# Altium footprint library 农联网.PcbLib: 38 footprints (part 1 of 3)
Each footprint in its own frame and in the unit in brackets; x right, y up, seen from the top. Pads: shape width x height; smd on the part's side, far side on the other; paste and mask are expansions set on the pad; w line width, h text height; cw(c..) or ccw(c..) is an arc to the next point about the centre after c.
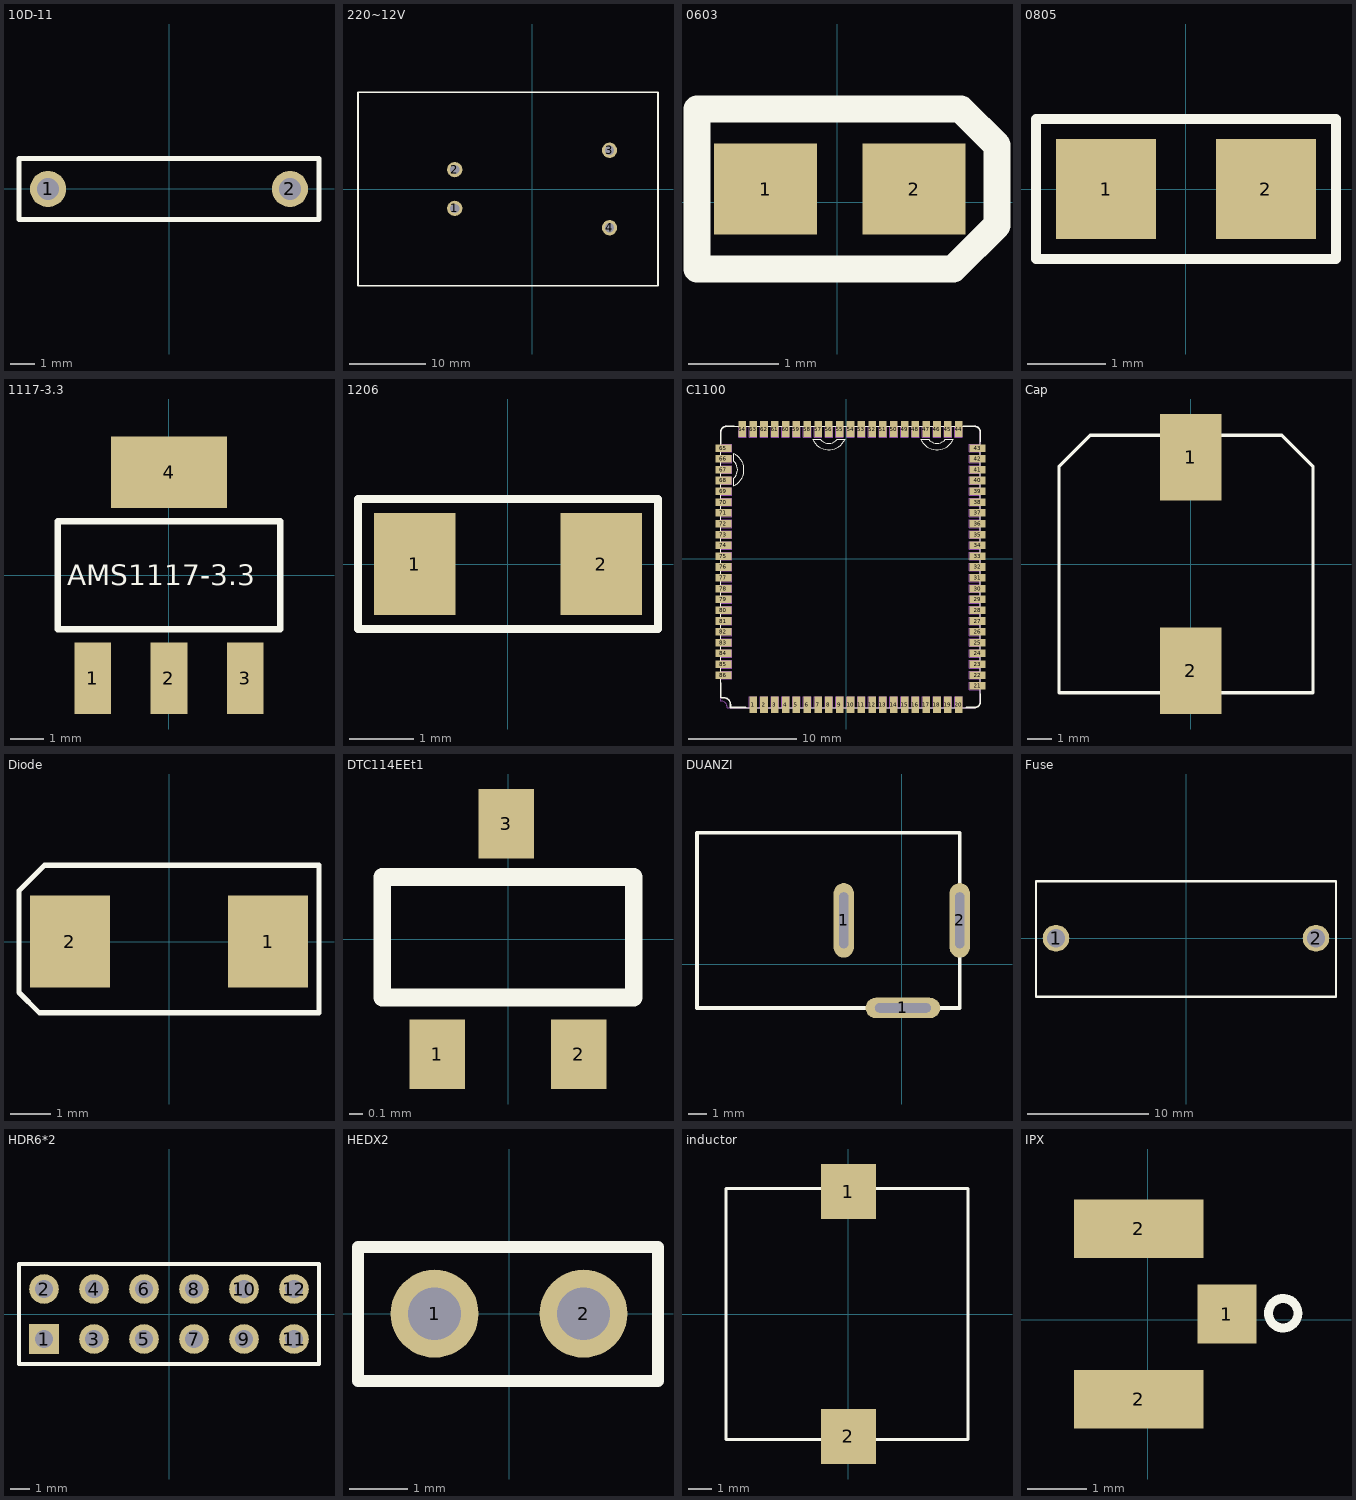
[diagram p0: the footprints below, top view; thin cyan lines are the x and y axes]

## 10D-11 [mm]
pads (2):
  round 1.5 hole 0.9: 1(-5.016,0) 2(5.017,0)
Top Overlay:
  lines w0.2: -6.223,-1.27 6.223,-1.27 6.223,1.265 -6.223,1.265 -6.223,-1.27

## 220~12V [mm]
pads (4):
  round 2 hole 1.2: 1(-10.16,-2.54) 2(-10.16,2.54) 3(10.16,5.08) 4(10.16,-5.08)
Top Overlay:
  lines w0.2: -22.86,-12.7 16.51,-12.7 16.51,12.7 -22.86,12.7 -22.86,-12.7

## 0603 [mil]
pads (2):
  rect 45x40 smd: 1(-31.3,5.87) 2(33.7,5.87)
Top Overlay:
  lines w12: -61.3,-29.13 -16.3,-29.13 50.87,-29.13 70,-10 70,25 54.13,40.87 -16.3,40.87 -61.3,40.87 -61.3,-29.13

## 0805 [mil]
pads (2):
  rect 50x50 smd: 1(-40,0) 2(40,0)
Top Overlay:
  lines w5: -75,-35 -75,35 75,35 75,-35 -75,-35

## 1117-3.3 [mm]
pads (4):
  rect 1.1x2.15 smd: 1(-2.3,-3.1) 2(0,-3.1) 3(2.3,-3.1)
  rect 3.5x2.15 smd: 4(0,3.1)
Top Overlay:
  lines w0.2: -3.35,-1.625 3.35,-1.625 3.35,1.625 -3.35,1.625 -3.35,-1.625
  text "AMS1117-3.3" at -3.062,-0.306 h0.61

## 1206 [mm]
pads (2):
  rect 1.27x1.6 smd: 1(-1.46,0) 2(1.46,0)
Top Overlay:
  lines w0.127: -2.349,-1.016 2.349,-1.016 2.349,1.016 -2.349,1.016 -2.349,-1.016

## C1100 [mm]
pads (86):
  rect 0.7x1.5 smd mask+0.05: 1(-8.619,-13.512) 2(-7.619,-13.512) 3(-6.619,-13.512) 4(-5.619,-13.512) 5(-4.619,-13.512) 6(-3.619,-13.512) 7(-2.619,-13.512) 8(-1.619,-13.512) 9(-0.619,-13.512) 10(0.381,-13.512) 11(1.381,-13.512) 12(2.381,-13.512) 13(3.381,-13.512) 14(4.381,-13.512) 15(5.381,-13.512) 16(6.381,-13.512) 17(7.381,-13.512) 18(8.381,-13.512) 19(9.381,-13.512) 20(10.381,-13.512) 44(10.381,11.988) 45(9.381,11.988) 46(8.381,11.988) 47(7.381,11.988) 48(6.381,11.988) 49(5.381,11.988) 50(4.381,11.988) 51(3.381,11.988) 52(2.381,11.988) 53(1.381,11.988) 54(0.381,11.988) 55(-0.619,11.988) 56(-1.619,11.988) 57(-2.619,11.988) 58(-3.619,11.988) 59(-4.619,11.988) 60(-5.619,11.988) 61(-6.619,11.988) 62(-7.619,11.988) 63(-8.619,11.988) 64(-9.619,11.988)
  rect 1.5x0.7 smd mask+0.05: 21(12.131,-11.762) 22(12.131,-10.762) 23(12.131,-9.762) 24(12.131,-8.762) 25(12.131,-7.762) 26(12.131,-6.762) 27(12.131,-5.762) 28(12.131,-4.762) 29(12.131,-3.762) 30(12.131,-2.762) 31(12.131,-1.762) 32(12.131,-0.762) 33(12.131,0.238) 34(12.131,1.238) 35(12.131,2.238) 36(12.131,3.238) 37(12.131,4.238) 38(12.131,5.238) 39(12.131,6.238) 40(12.131,7.238) 41(12.131,8.238) 42(12.131,9.238) 43(12.131,10.238) 65(-11.369,10.238) 66(-11.369,9.238) 67(-11.369,8.238) 68(-11.369,7.238) 69(-11.369,6.238) 70(-11.369,5.238) 71(-11.369,4.238) 72(-11.369,3.238) 73(-11.369,2.238) 74(-11.369,1.238) 75(-11.369,0.238) 76(-11.369,-0.762) 77(-11.369,-1.762) 78(-11.369,-2.762) 79(-11.369,-3.762) 80(-11.369,-4.762) 81(-11.369,-5.762) 82(-11.369,-6.762) 83(-11.369,-7.762) 84(-11.369,-8.762) 85(-11.369,-9.762) 86(-11.369,-10.762)
Top Overlay:
  lines w0.05: -0.836,11.038 -0.125,11.038 cw(c-1.619,11.738) -3.113,11.038 -2.402,11.038 ccw(c-1.619,11.738) -0.836,11.038 ; 9.164,11.038 9.875,11.038 cw(c8.381,11.738) 6.887,11.038 7.598,11.038 ccw(c8.381,11.738) 9.164,11.038 ; -11.619,-12.862 -11.619,11.738 cw(c-11.119,11.738) -11.119,12.238 11.881,12.238 cw(c11.881,11.738) 12.381,11.738 12.381,-13.262 cw(c11.881,-13.262) 11.881,-13.762 -10.719,-13.762 -10.719,-13.462 ccw(c-11.319,-13.462) -11.319,-12.862 -11.619,-12.862 ; -10.419,6.744 ccw(c-11.119,8.238) -10.419,9.732 -10.419,9.021 cw(c-11.119,8.238) -10.419,7.455 -10.419,6.744
  lines w0.15: -11.619,-11.462 -11.619,-12.862 -11.319,-12.862 cw(c-11.319,-13.462) -10.719,-13.462 -10.719,-13.762 -9.319,-13.762 ; -11.619,10.638 -11.619,11.738 cw(c-11.119,11.738) -11.119,12.238 -10.369,12.238 ; 10.831,12.238 11.881,12.238 cw(c11.881,11.738) 12.381,11.738 12.381,10.838 ; 11.081,-13.762 11.881,-13.762 ccw(c11.881,-13.262) 12.381,-13.262 12.381,-12.512
Mechanical 1:
  drawing of 696 lines, arcs and shapes, not listed

## Cap [mm]
pads (2):
  rect 2.5x3.5 smd: 1(0,4.318) 2(0,-4.318)
Top Overlay:
  lines w0.127: -5.334,-5.207 -5.334,3.937 -4.064,5.207 3.683,5.207 4.953,3.937 4.953,-5.207 -5.334,-5.207

## Diode [mm]
pads (2):
  rect 2x2.3 smd: 1(2.476,0) 2(-2.476,0)
Top Overlay:
  lines w0.127: -3.746,-1.27 -3.746,1.27 -3.111,1.905 3.746,1.905 3.746,-1.778 -3.238,-1.778 -3.746,-1.27

## DTC114EEt1 [mm]
pads (3):
  rect 0.4x0.5 smd: 1(-0.508,-0.826) 2(0.508,-0.826) 3(-0.013,0.826)
Top Overlay:
  lines w0.127: -0.902,-0.419 -0.902,0.445 0.902,0.445 0.902,-0.419 -0.902,-0.419

## DUANZI [mm]
pads (3):
  oval 1.1x4 hole 0.5 slot 3 at 90 deg: 1(-3.111,2.349) 2(3.112,2.349)
  oval 4x1.1 hole 0.5 slot 3 at 0 deg: 1(0.064,-2.349)
Top Overlay:
  lines w0.2: -10.985,-2.349 3.112,-2.349 3.112,7.048 -10.985,7.048 -10.985,-2.349

## Fuse [mm]
pads (2):
  round 2.2 hole 1.5: 1(-10.731,0) 2(10.731,0)
Top Overlay:
  lines w0.2: -12.383,-4.826 12.383,-4.826 12.383,4.699 12.002,4.699 -12.383,4.699 -12.383,-4.826

## HDR6*2 [mm]
pads (12):
  rect 1.5x1.5 hole 0.9: 1(-6.35,-1.27)
  round 1.5 hole 0.9: 2(-6.35,1.27) 3(-3.81,-1.27) 4(-3.81,1.27) 5(-1.27,-1.27) 6(-1.27,1.27) 7(1.27,-1.27) 8(1.27,1.27) 9(3.81,-1.27) 10(3.81,1.27) 11(6.35,-1.27) 12(6.35,1.27)
Top Overlay:
  lines w0.2: -7.62,-2.54 -7.62,2.54 7.62,2.54 7.62,-2.54 -7.62,-2.54

## HEDX2 [mm]
pads (2):
  round 1.5 hole 0.9: 1(-1.27,0) 2(1.27,0)
Top Overlay:
  lines w0.2: -2.577,-1.148 -2.577,1.138 2.54,1.138 2.54,-1.148 -2.577,-1.148

## inductor [mm]
pads (2):
  rect 2.4x2.4 smd: 1(0,5.334) 2(0,-5.334)
Top Overlay:
  lines w0.127: -5.334,-5.461 -5.334,5.461 5.207,5.461 5.207,-5.461 -5.334,-5.461

## IPX [mm]
pads (3):
  rrect0% 1x1 smd: 1(1.348,0.102)
  rect 2.2x1 smd: 2(-0.152,-1.348) 2(-0.152,1.552)
Top Overlay:
  circle w0.152: c2.304,0.115 r0.25